# Altium footprint library Michel.PcbLib: 60 footprints (part 1 of 4)
Each footprint in its own frame and in the unit in brackets; x right, y up, seen from the top. Pads: shape width x height; smd on the part's side, far side on the other; paste and mask are expansions set on the pad; w line width, h text height; cw(c..) or ccw(c..) is an arc to the next point about the centre after c.
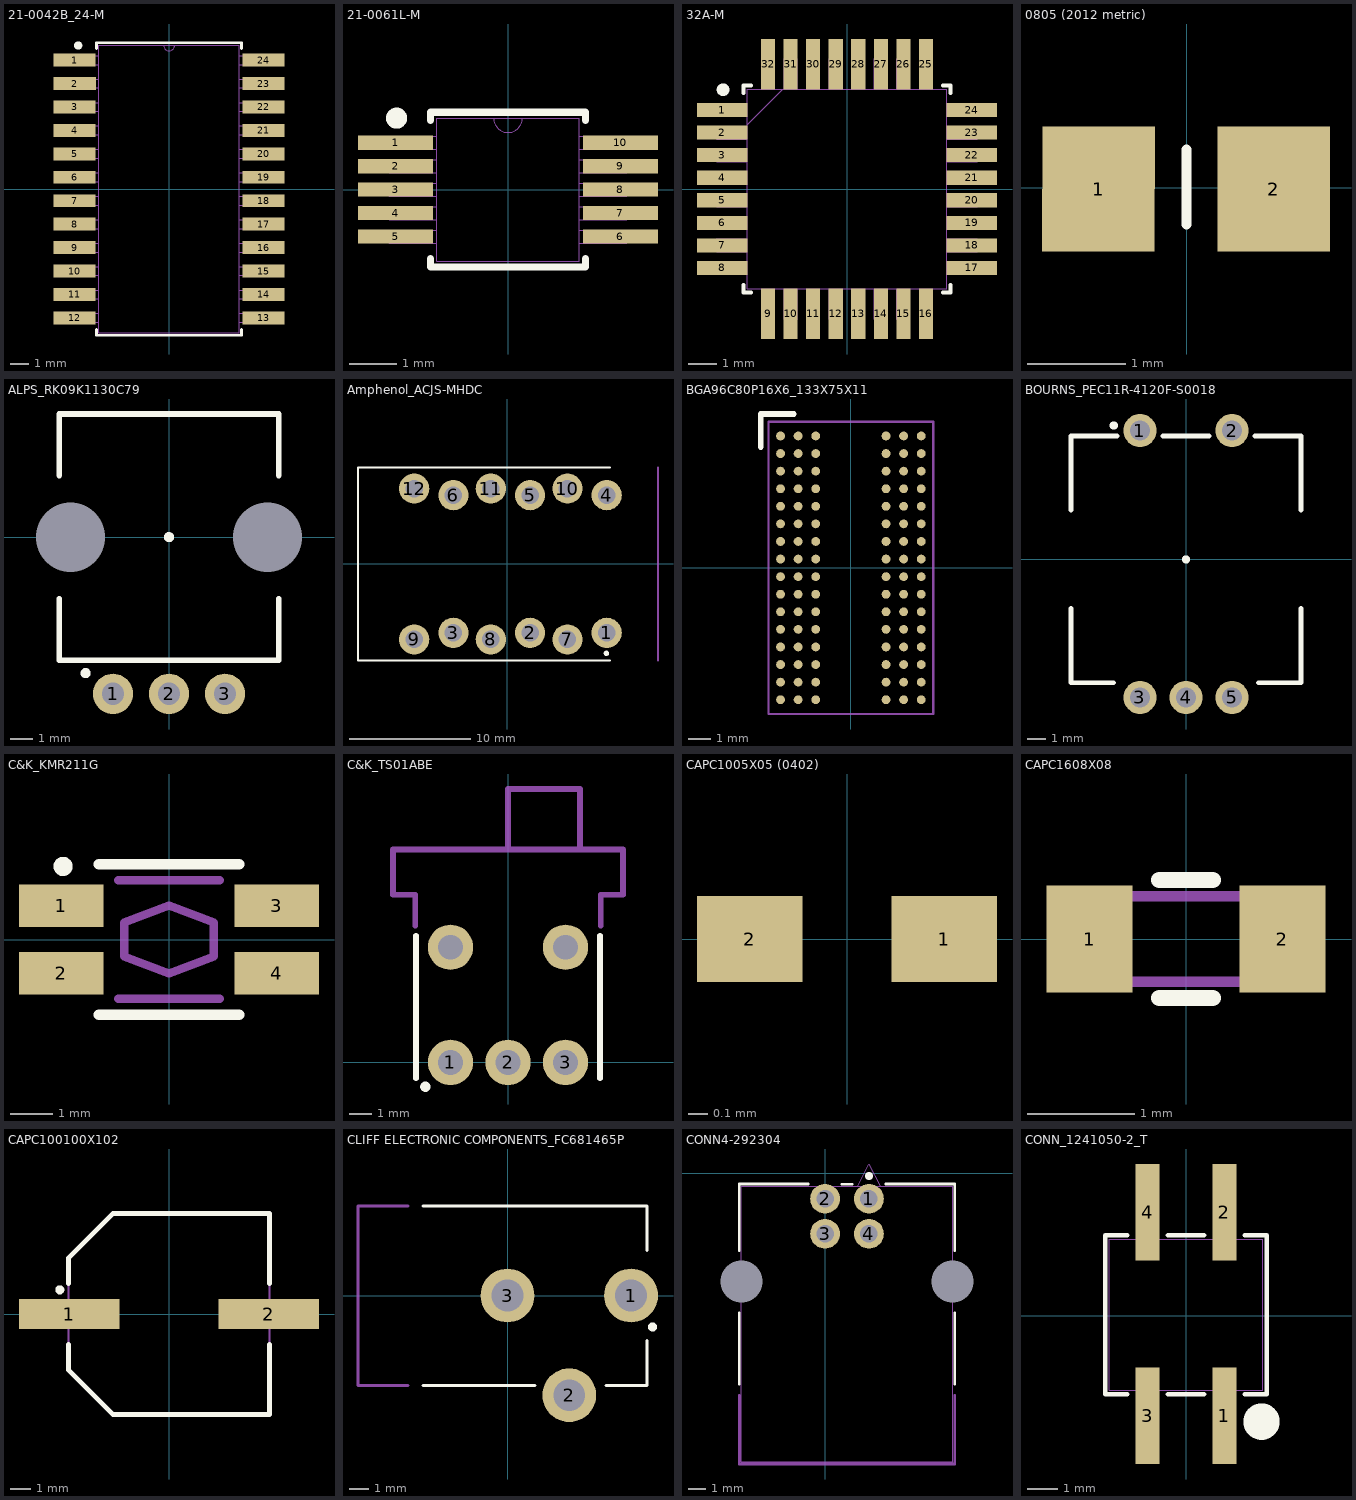
[diagram p0: the footprints below, top view; thin cyan lines are the x and y axes]

## 21-0042B_24-M [mil] "SOIC_24"
pads (24):
  rect 90x27.56 smd: 1(-201.5,275) 3(-201.5,175) 4(-201.5,125) 5(-201.5,75) 6(-201.5,25) 7(-201.5,-25) 8(-201.5,-75) 9(-201.5,-125) 10(-201.5,-175) 11(-201.5,-225) 12(-201.5,-275) 13(201.5,-275) 14(201.5,-225) 15(201.5,-175) 16(201.5,-125) 17(201.5,-75) 18(201.5,-25) 19(201.5,25) 20(201.5,75) 21(201.5,125) 22(201.5,175) 23(201.5,225) 24(201.5,275)
  rect 90.55x27.56 smd: 2(-201.5,225)
Top Overlay:
  circle w9.84: c-193.9,306.1 r3.94
  lines w6: -154.5,-299.6 -154.5,-312 154.5,-312 154.5,-299.6 ; -154.5,299.6 -154.5,312 154.5,312 154.5,299.6
Mechanical 1:
  lines w0: -12,307 ccw(c0,307) 12,307
  lines w1: -209.5,-284.5 -209.5,-265.5 -149.5,-265.5 -149.5,-284.5 -209.5,-284.5 ; -209.5,-234.5 -209.5,-215.5 -149.5,-215.5 -149.5,-234.5 -209.5,-234.5 ; -209.5,-184.5 -209.5,-165.5 -149.5,-165.5 -149.5,-184.5 -209.5,-184.5 ; -209.5,-134.5 -209.5,-115.5 -149.5,-115.5 -149.5,-134.5 -209.5,-134.5 ; -209.5,-84.5 -209.5,-65.5 -149.5,-65.5 -149.5,-84.5 -209.5,-84.5 ; -209.5,-34.5 -209.5,-15.5 -149.5,-15.5 -149.5,-34.5 -209.5,-34.5 ; -209.5,15.5 -209.5,34.5 -149.5,34.5 -149.5,15.5 -209.5,15.5 ; -209.5,65.5 -209.5,84.5 -149.5,84.5 -149.5,65.5 -209.5,65.5 ; -209.5,115.5 -209.5,134.5 -149.5,134.5 -149.5,115.5 -209.5,115.5 ; -209.5,165.5 -209.5,184.5 -149.5,184.5 -149.5,165.5 -209.5,165.5 ; -209.5,215.5 -209.5,234.5 -149.5,234.5 -149.5,215.5 -209.5,215.5 ; -209.5,265.5 -209.5,284.5 -149.5,284.5 -149.5,265.5 -209.5,265.5 ; -149.5,-307 149.5,-307 149.5,307 -149.5,307 -149.5,-307 ; 149.5,-284.5 149.5,-265.5 209.5,-265.5 209.5,-284.5 149.5,-284.5 ; 149.5,-234.5 149.5,-215.5 209.5,-215.5 209.5,-234.5 149.5,-234.5 ; 149.5,-184.5 149.5,-165.5 209.5,-165.5 209.5,-184.5 149.5,-184.5 ; 149.5,-134.5 149.5,-115.5 209.5,-115.5 209.5,-134.5 149.5,-134.5 ; 149.5,-84.5 149.5,-65.5 209.5,-65.5 209.5,-84.5 149.5,-84.5 ; 149.5,-34.5 149.5,-15.5 209.5,-15.5 209.5,-34.5 149.5,-34.5 ; 149.5,15.5 149.5,34.5 209.5,34.5 209.5,15.5 149.5,15.5 ; 149.5,65.5 149.5,84.5 209.5,84.5 209.5,65.5 149.5,65.5 ; 149.5,115.5 149.5,134.5 209.5,134.5 209.5,115.5 149.5,115.5 ; 149.5,165.5 149.5,184.5 209.5,184.5 209.5,165.5 149.5,165.5 ; 149.5,215.5 149.5,234.5 209.5,234.5 209.5,215.5 149.5,215.5 ; 149.5,265.5 149.5,284.5 209.5,284.5 209.5,265.5 149.5,265.5
Mechanical 13:
  text "*" at -147,254 h50
3D body "21-0042B_24-M.step": height 104.09, standoff 0, extent -209.48,-307 209.49,307.01
3D body: height 10, standoff 0, extent 0,0 10,10

## 21-0061L-M [mm] "uMax_10"
pads (10):
  rect 1.6x0.3 smd mask+0.05: 1(-2.398,1) 2(-2.398,0.5) 3(-2.398,0) 4(-2.398,-0.5) 5(-2.398,-1) 6(2.398,-1) 7(2.398,-0.5) 8(2.398,0) 9(2.398,0.5) 10(2.398,1)
Top Overlay:
  circle w0.25: c-2.375,1.525 r0.1
  lines w0.152: -1.651,-1.472 -1.651,-1.651 1.651,-1.651 1.651,-1.472 ; -1.651,1.472 -1.651,1.651 1.651,1.651 1.651,1.472
Mechanical 1:
  lines w0: -0.305,1.524 ccw(c0,1.524) 0.305,1.524
  lines w0.025: -2.527,-1.14 -2.527,-0.86 -1.524,-0.86 -1.524,-1.14 -2.527,-1.14 ; -2.527,-0.64 -2.527,-0.36 -1.524,-0.36 -1.524,-0.64 -2.527,-0.64 ; -2.527,-0.14 -2.527,0.14 -1.524,0.14 -1.524,-0.14 -2.527,-0.14 ; -2.527,0.36 -2.527,0.64 -1.524,0.64 -1.524,0.36 -2.527,0.36 ; -2.527,0.86 -2.527,1.14 -1.524,1.14 -1.524,0.86 -2.527,0.86 ; -1.524,-1.524 1.524,-1.524 1.524,1.524 -1.524,1.524 -1.524,-1.524 ; 1.524,-1.14 1.524,-0.86 2.527,-0.86 2.527,-1.14 1.524,-1.14 ; 1.524,-0.64 1.524,-0.36 2.527,-0.36 2.527,-0.64 1.524,-0.64 ; 1.524,-0.14 1.524,0.14 2.527,0.14 2.527,-0.14 1.524,-0.14 ; 1.524,0.36 1.524,0.64 2.527,0.64 2.527,0.36 1.524,0.36 ; 1.524,0.86 1.524,1.14 2.527,1.14 2.527,0.86 1.524,0.86
Mechanical 13:
  text "*" at -1.46,0.178 h1.27
3D body: height 0.25, standoff 0, extent 0,0 0.254,0.254
3D body "21-0061L-M.step": height 1.09, standoff 0, extent -2.527,-1.524 2.527,1.524

## 32A-M [mm] "TQFP_32"
pads (32):
  rect 1.8x0.5 smd mask+0.08: 1(-4.426,2.8) 2(-4.426,2) 3(-4.426,1.2) 4(-4.426,0.4) 5(-4.426,-0.4) 6(-4.426,-1.2) 7(-4.426,-2) 8(-4.426,-2.8) 17(4.426,-2.8) 18(4.426,-2) 19(4.426,-1.2) 20(4.426,-0.4) 21(4.426,0.4) 22(4.426,1.2) 23(4.426,2) 24(4.426,2.8)
  rect 0.5x1.8 smd mask+0.08: 9(-2.8,-4.426) 10(-2,-4.426) 11(-1.2,-4.426) 12(-0.4,-4.426) 13(0.4,-4.426) 14(1.2,-4.426) 15(2,-4.426) 16(2.8,-4.426) 25(2.8,4.426) 26(2,4.426) 27(1.2,4.426) 28(0.4,4.426) 29(-0.4,4.426) 30(-1.2,4.426) 31(-2,4.426) 32(-2.8,4.426)
Top Overlay:
  circle w0.25: c-4.4,3.525 r0.1
  lines w0.152: -3.677,-3.409 -3.677,-3.677 -3.409,-3.677 ; -3.677,3.409 -3.677,3.677 -3.409,3.677 ; 3.409,-3.677 3.677,-3.677 3.677,-3.409 ; 3.409,3.677 3.677,3.677 3.677,3.409
Mechanical 13:
  lines w0.025: -3.55,2.28 -2.28,3.55 ; -4.625,-3.025 -4.625,-2.575 -3.55,-2.575 -3.55,-3.025 -4.625,-3.025 ; -4.625,-2.225 -4.625,-1.775 -3.55,-1.775 -3.55,-2.225 -4.625,-2.225 ; -4.625,-1.425 -4.625,-0.975 -3.55,-0.975 -3.55,-1.425 -4.625,-1.425 ; -4.625,-0.625 -4.625,-0.175 -3.55,-0.175 -3.55,-0.625 -4.625,-0.625 ; -4.625,0.175 -4.625,0.625 -3.55,0.625 -3.55,0.175 -4.625,0.175 ; -4.625,0.975 -4.625,1.425 -3.55,1.425 -3.55,0.975 -4.625,0.975 ; -4.625,1.775 -4.625,2.225 -3.55,2.225 -3.55,1.775 -4.625,1.775 ; -4.625,2.575 -4.625,3.025 -3.55,3.025 -3.55,2.575 -4.625,2.575 ; -3.55,-3.55 3.55,-3.55 3.55,3.55 -3.55,3.55 -3.55,-3.55 ; -3.025,-4.625 -3.025,-3.55 -2.575,-3.55 -2.575,-4.625 -3.025,-4.625 ; -3.025,3.55 -2.575,3.55 -2.575,4.625 -3.025,4.625 -3.025,3.55 ; -2.225,-4.625 -2.225,-3.55 -1.775,-3.55 -1.775,-4.625 -2.225,-4.625 ; -2.225,3.55 -1.775,3.55 -1.775,4.625 -2.225,4.625 -2.225,3.55 ; -1.425,-4.625 -1.425,-3.55 -0.975,-3.55 -0.975,-4.625 -1.425,-4.625 ; -1.425,3.55 -0.975,3.55 -0.975,4.625 -1.425,4.625 -1.425,3.55 ; -0.625,-4.625 -0.625,-3.55 -0.175,-3.55 -0.175,-4.625 -0.625,-4.625 ; -0.625,3.55 -0.175,3.55 -0.175,4.625 -0.625,4.625 -0.625,3.55 ; 0.175,-4.625 0.175,-3.55 0.625,-3.55 0.625,-4.625 0.175,-4.625 ; 0.175,3.55 0.625,3.55 0.625,4.625 0.175,4.625 0.175,3.55 ; 0.975,-4.625 0.975,-3.55 1.425,-3.55 1.425,-4.625 0.975,-4.625 ; 0.975,3.55 1.425,3.55 1.425,4.625 0.975,4.625 0.975,3.55 ; 1.775,-4.625 1.775,-3.55 2.225,-3.55 2.225,-4.625 1.775,-4.625 ; 1.775,3.55 2.225,3.55 2.225,4.625 1.775,4.625 1.775,3.55 ; 2.575,-4.625 2.575,-3.55 3.025,-3.55 3.025,-4.625 2.575,-4.625 ; 2.575,3.55 3.025,3.55 3.025,4.625 2.575,4.625 2.575,3.55 ; 3.55,-3.025 3.55,-2.575 4.625,-2.575 4.625,-3.025 3.55,-3.025 ; 3.55,-2.225 3.55,-1.775 4.625,-1.775 4.625,-2.225 3.55,-2.225 ; 3.55,-1.425 3.55,-0.975 4.625,-0.975 4.625,-1.425 3.55,-1.425 ; 3.55,-0.625 3.55,-0.175 4.625,-0.175 4.625,-0.625 3.55,-0.625 ; 3.55,0.175 3.55,0.625 4.625,0.625 4.625,0.175 3.55,0.175 ; 3.55,0.975 3.55,1.425 4.625,1.425 4.625,0.975 3.55,0.975 ; 3.55,1.775 3.55,2.225 4.625,2.225 4.625,1.775 3.55,1.775 ; 3.55,2.575 3.55,3.025 4.625,3.025 4.625,2.575 3.55,2.575
  text "*" at -3.487,2.565 h1.27
3D body "32A-M.step": height 1.2, standoff 0, extent -4.625,-4.625 4.625,4.625
3D body: height 0.25, standoff 0, extent 0,0 0.254,0.254

## 0805 (2012 metric) [mil] "decouplage"
pads (2):
  rect 45x50 smd mask+2: 1(-35.23,-0.5) 2(34.77,-0.5)
Top Overlay:
  lines w3.94: 0,-14.76 0,15.24

## ALPS_RK09K1130C79 [mm] "Through-Hole_5"
pads (5):
  round 1.8 hole 1: 1(-2.5,-7) 2(0,-7) 3(2.5,-7)
  round 0 hole 3.1: ""(-4.4,0) ""(4.4,0)
Top Overlay:
  circle w0.25: c0,0 r0.1
  circle w0.25: c-3.725,-6.075 r0.1
  lines w0.254: -4.9,-2.75 -4.9,-5.5 4.9,-5.5 4.9,-2.75 ; -4.9,2.75 -4.9,5.5 4.9,5.5 4.9,2.75

## Amphenol_ACJS-MHDC [mm] "Through-Hole_12"
height 30
pads (12):
  round 2.5 hole 1.45: 1(8.223,-5.7) 2(1.873,-5.7) 3(-4.477,-5.7) 4(8.223,5.7) 5(1.873,5.7) 6(-4.477,5.7) 7(4.972,-6.25) 8(-1.378,-6.25) 9(-7.728,-6.25) 10(4.972,6.25) 11(-1.378,6.25) 12(-7.728,6.25)
Top Overlay:
  circle w0.25: c8.2,-7.4 r0.1
  lines w0.15: 8.5,-8 -12.383,-8 -12.383,8 8.5,8
Mechanical 1:
  lines w0.15: 12.472,-8 12.472,8
3D body "Double-Jack.step": height 29.32, standoff 0.02, extent -12.3,-8 21.2,8

## BGA96C80P16X6_133X75X11 [mm]
pads (96):
  round 0.4 smd: A1(-3.2,6) A2(-2.4,6) A3(-1.6,6) A7(1.6,6) A8(2.4,6) A9(3.2,6) B1(-3.2,5.2) B2(-2.4,5.2) B3(-1.6,5.2) B7(1.6,5.2) B8(2.4,5.2) B9(3.2,5.2) C1(-3.2,4.4) C2(-2.4,4.4) C3(-1.6,4.4) C7(1.6,4.4) C8(2.4,4.4) C9(3.2,4.4) D1(-3.2,3.6) D2(-2.4,3.6) D3(-1.6,3.6) D7(1.6,3.6) D8(2.4,3.6) D9(3.2,3.6) E1(-3.2,2.8) E2(-2.4,2.8) E3(-1.6,2.8) E7(1.6,2.8) E8(2.4,2.8) E9(3.2,2.8) F1(-3.2,2) F2(-2.4,2) F3(-1.6,2) F7(1.6,2) F8(2.4,2) F9(3.2,2) G1(-3.2,1.2) G2(-2.4,1.2) G3(-1.6,1.2) G7(1.6,1.2) G8(2.4,1.2) G9(3.2,1.2) H1(-3.2,0.4) H2(-2.4,0.4) H3(-1.6,0.4) H7(1.6,0.4) H8(2.4,0.4) H9(3.2,0.4) J1(-3.2,-0.4) J2(-2.4,-0.4) J3(-1.6,-0.4) J7(1.6,-0.4) J8(2.4,-0.4) J9(3.2,-0.4) K1(-3.2,-1.2) K2(-2.4,-1.2) K3(-1.6,-1.2) K7(1.6,-1.2) K8(2.4,-1.2) K9(3.2,-1.2) L1(-3.2,-2) L2(-2.4,-2) L3(-1.6,-2) L7(1.6,-2) L8(2.4,-2) L9(3.2,-2) M1(-3.2,-2.8) M2(-2.4,-2.8) M3(-1.6,-2.8) M7(1.6,-2.8) M8(2.4,-2.8) M9(3.2,-2.8) N1(-3.2,-3.6) N2(-2.4,-3.6) N3(-1.6,-3.6) N7(1.6,-3.6) N8(2.4,-3.6) N9(3.2,-3.6) P1(-3.2,-4.4) P2(-2.4,-4.4) P3(-1.6,-4.4) P7(1.6,-4.4) P8(2.4,-4.4) P9(3.2,-4.4) R1(-3.2,-5.2) R2(-2.4,-5.2) R3(-1.6,-5.2) R7(1.6,-5.2) R8(2.4,-5.2) R9(3.2,-5.2) T1(-3.2,-6) T2(-2.4,-6) T3(-1.6,-6) T7(1.6,-6) T8(2.4,-6) T9(3.2,-6)
Top Overlay:
  lines w0.254: -4.1,5.5 -4.1,7 -2.6,7
Mechanical 13:
  lines w0.1: -3.75,-6.65 -3.75,6.65 3.75,6.65 3.75,-6.65 -3.75,-6.65
3D body: height 1.2, standoff 0, extent -3.75,-6.65 3.75,6.65

## BOURNS_PEC11R-4120F-S0018 [mm] "Through-Hole_7"
pads (5):
  round 1.8 hole 1.1: 1(-2.5,7) 2(2.5,7) 3(-2.5,-7.5) 4(0,-7.5) 5(2.5,-7.5)
Top Overlay:
  circle w0.25: c-3.925,7.275 r0.1
  circle w0.25: c0,0 r0.1
  lines w0.254: -6.25,-2.667 -6.25,-6.7 -3.937,-6.7 ; -6.25,2.667 -6.25,6.7 -3.75,6.7 ; -1.25,6.7 1.25,6.7 ; 3.75,6.7 6.25,6.7 6.25,2.667 ; 3.937,-6.7 6.25,-6.7 6.25,-2.667

## C&K_KMR211G [mm] "SMT_4"
pads (4):
  rect 2x1 smd: 1(-2.54,0.8) 2(-2.54,-0.8) 3(2.54,0.8) 4(2.54,-0.8)
Top Overlay:
  circle w0.25: c-2.5,1.725 r0.1
  lines w0.254: -1.651,-1.778 1.651,-1.778 ; -1.651,1.778 1.651,1.778
Mechanical 1:
  lines w0.2: -1.2,-1.4 1.2,-1.4 ; -1.2,1.4 1.2,1.4 ; -1.06,-0.4 -1.06,0.4 ; -1.06,-0.4 0,-0.8 ; -1.06,-0.4 0,-0.8 ; -1.06,-0.4 -1.06,0.4 ; -1.06,0.4 0,0.8 ; -1.06,0.4 0,0.8 ; 0,-0.8 1.06,-0.4 ; 0,-0.8 1.06,-0.4 ; 0,0.8 1.06,0.4 ; 1.06,-0.4 1.06,0.4 ; 1.06,-0.4 1.06,0.4
3D body: height 1.5, standoff 0, extent -2.075,-1.375 2.125,1.425
3D body: height 2.2, standoff 0, extent -1.175,-0.775 1.225,0.825

## C&K_TS01ABE [mm] "Through-Hole_5"
pads (5):
  round 2 hole 1.1: 1(-2.54,0) 2(0,0) 3(2.54,0) ""(-2.54,5.08) ""(2.54,5.08)
Top Overlay:
  circle w0.25: c-3.65,-1.075 r0.1
  lines w0.254: -4.065,-0.7 -4.065,5.587 ; 4.065,-0.7 4.065,5.587
Mechanical 1:
  lines w0.254: -4.092,6.031 -4.092,7.4 -5.08,7.4 -5.08,9.4 5.08,9.4 5.08,7.4 4.092,7.4 4.092,6.031 ; 0,9.398 0,12.065 3.175,12.065 3.175,9.4
3D body "PowerSwitch.step": height 5.27, standoff 0.17, extent -5,-1.66 5.2,11.46

## CAPC1005X05 (0402) [mm] "CMS_2 ; Chip Capacitor, 2-Leads, Body 1.00x0.50mm, IPC Medium Density"
height 0.5
pads (2):
  rect 0.55x0.45 smd mask+0.02: 1(0.508,0) 2(-0.508,0)

## CAPC1608X08 [mm] "CMS_2 ; Chip Capacitor, 2-Leads, Body 1.60x0.80mm, IPC Medium Density"
height 0.8
pads (2):
  rect 0.8x1 smd: 1(-0.9,0) 2(0.9,0)
Top Overlay:
  lines w0.15: -0.25,-0.55 0.25,-0.55 ; -0.25,0.55 0.25,0.55
Mechanical 13:
  lines w0.1: -0.8,-0.4 0.8,-0.4 0.8,0.4 -0.8,0.4 -0.8,-0.4
3D body: height 0.8, standoff 0, extent 0.6,-0.4 0.8,0.4
3D body: height 0.8, standoff 0, extent -0.8,-0.4 -0.6,0.4
3D body: height 0.8, standoff 0, extent -0.6,-0.4 0.6,0.4

## CAPC100100X102 [mm] "CMS_2 ; Aluminum Electrolytic Capacitor, Body 10.00x10.00x10.20mm, IPC Low Density"
height 10.2
pads (2):
  rect 5x1.5 smd: 1(-4.953,0) 2(4.953,0)
Top Overlay:
  circle w0.25: c-5.425,1.2 r0.1
  lines w0.25: -5,-1.505 -5,-2.775 -2.775,-5 5,-5 5,-1.524 ; -5,1.524 -5,2.775 -2.775,5 5,5 5,1.524
Mechanical 13:
  lines w0.1: -5,-2.775 -5,2.775 -2.775,5 5,5 5,-5 -2.775,-5 -5,-2.775
3D body: height 10.2, standoff 0, extent -4,-4 3.968,3.984
3D body: height 3.4, standoff 0, extent -5,-5 5,5

## CLIFF ELECTRONIC COMPONENTS_FC681465P [mm] "Through-Hole_3 ; Support Alim 9V"
height 11
pads (3):
  round 2.7 hole 1.6: 1(6.2,0) 2(3.1,-5) 3(0,0)
Top Overlay:
  circle w0.25: c7.275,-1.575 r0.1
  lines w0.15: -4.246,-4.5 1.377,-4.5 ; -4.246,4.5 7,4.5 7,2.25 ; 4.953,-4.5 7,-4.5 7,-2.25
Mechanical 1:
  lines w0.15: -5,-4.5 -7.5,-4.5 -7.5,4.5 -5,4.5
3D body "BarrelAlim.step": height 3.03, standoff -11.47, extent -7.55,-4.8 6.95,4.7

## CONN4-292304 [mm]
pads (6):
  round 1.7 hole 1: 1(2.5,-1.444) 2(0,-1.444) 3(0,-3.444) 4(2.5,-3.444)
  round 0 hole 2.4 unplated: ""(-4.77,-6.154) ""(7.27,-6.154)
Top Overlay:
  circle w0.25: c2.5,-0.15 r0.1
  lines w0.152: -4.897,-12 -4.897,-7.95 ; -4.897,-4.396 -4.897,-0.61 -0.95,-0.61 ; 0.95,-0.625 1.55,-0.625 ; 3.45,-0.61 7.397,-0.61 7.397,-4.396 ; 7.397,-12 7.397,-7.95
Mechanical 1:
  lines w0.152: -4.897,-12.65 -4.897,-16.561 7.397,-16.561 7.397,-12.65
Mechanical 13:
  lines w0.025: 1.865,-0.737 2.5,0.533 3.135,-0.737 ; -4.77,-16.434 -4.77,-0.737 7.27,-0.737 7.27,-16.434 -4.77,-16.434
3D body "USB.step": height 0, standoff 0, extent -4.8,-0.8 -4.8,-0.8
3D body "USB.step": height 11.53, standoff -0.02, extent -4.8,-16.7 7.25,-0.7

## CONN_1241050-2_T [mm] "Header_4"
pads (4):
  rect 0.8x3.2 smd paste+0: 1(1.27,-3.302) 2(1.27,3.429) 3(-1.27,-3.302) 4(-1.27,3.429)
Top Overlay:
  circle w1: c2.5,-3.5 r0.1
  lines w0.152: -1.946,-2.591 -2.667,-2.591 -2.667,2.667 -1.946,2.667 ; -0.594,-2.591 0.594,-2.591 ; -0.594,2.667 0.594,2.667 ; 1.946,-2.591 2.667,-2.591 2.667,2.667 1.946,2.667
Mechanical 13:
  lines w0.025: -2.54,-2.464 -2.54,2.54 ; -2.54,-2.464 2.54,-2.464 ; -2.54,-2.464 2.54,-2.464 ; -2.54,-2.464 -2.54,2.54 ; -2.54,2.54 2.54,2.54 ; -2.54,2.54 2.54,2.54 ; 2.54,-2.464 2.54,2.54 ; 2.54,-2.464 2.54,2.54
3D body "CONN_1241050-2_TYCO.step": height 8.61, standoff 0, extent -2.54,-4.128 2.54,4.128
3D body: height 0.25, standoff 0, extent 0,0 0.254,0.254